# Altium footprint library ATTINY85-20SU.PcbLib: 1 footprints
Each footprint in its own frame and in the unit in brackets; x right, y up, seen from the top. Pads: shape width x height; smd on the part's side, far side on the other; paste and mask are expansions set on the pad; w line width, h text height; cw(c..) or ccw(c..) is an arc to the next point about the centre after c.
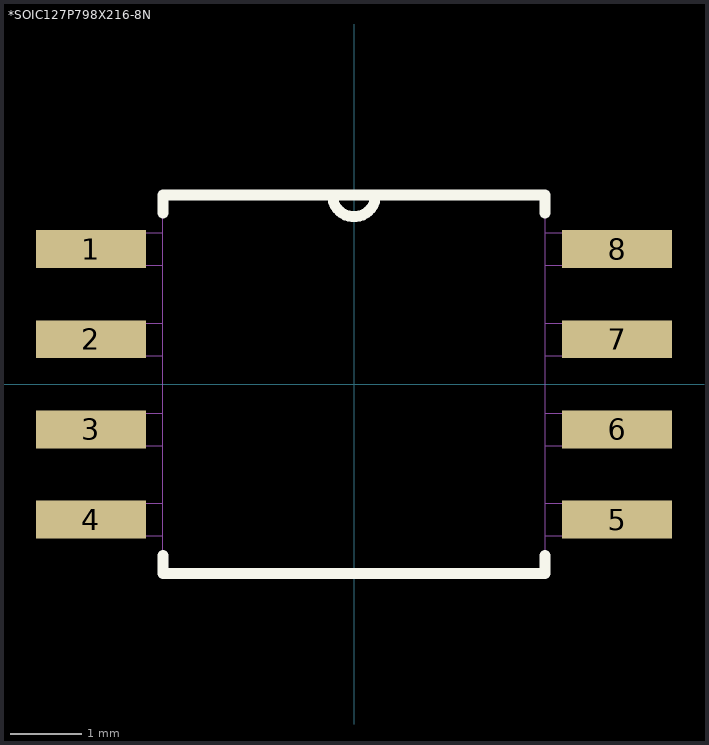
[diagram p0: the footprint, top view; thin cyan lines are the x and y axes]

## *SOIC127P798X216-8N [mil]
pads (8):
  rect 61x21 smd: 1(-146,75) 2(-146,25) 3(-146,-25) 4(-146,-75) 5(146,-75) 6(146,-25) 7(146,25) 8(146,75)
Top Overlay:
  lines w6: -106,-95 -106,-105 106,-105 106,-95 ; -106,95 -106,105 -12,105 ; 106,95 106,105 12,105 ; -12,105 ccw(c0,105) 12,105 ; -12,105 ccw(c0,105) 12,105 ; -12,105 12,105
Mechanical 4:
  lines w0: -163,-84 -106,-84 ; -163,-84 -163,-66 ; -163,-84 -106,-84 ; -163,-84 -163,-66 ; -163,-66 -106,-66 ; -163,-66 -106,-66 ; -163,-34 -106,-34 ; -163,-34 -163,-16 ; -163,-34 -106,-34 ; -163,-34 -163,-16 ; -163,-16 -106,-16 ; -163,-16 -106,-16 ; -163,16 -106,16 ; -163,16 -163,34 ; -163,16 -106,16 ; -163,16 -163,34 ; -163,34 -106,34 ; -163,34 -106,34 ; -163,66 -106,66 ; -163,66 -163,84 ; -163,66 -106,66 ; -163,66 -163,84 ; -163,84 -106,84 ; -163,84 -106,84 ; -106,-105 -106,105 ; -106,-105 106,-105 ; -106,-105 -106,105 ; -106,-105 106,-105 ; -106,-84 -106,-66 ; -106,-84 -106,-66 ; -106,-34 -106,-16 ; -106,-34 -106,-16 ; -106,16 -106,34 ; -106,16 -106,34 ; -106,66 -106,84 ; -106,66 -106,84 ; -106,105 -12,105 ; -106,105 -12,105 ; -12,105 ccw(c0,105) 12,105 ; -12,105 ccw(c0,105) 12,105 ; -12,105 ccw(c0,105) 12,105 ; -12,105 ccw(c0,105) 12,105 ; -12,105 12,105 ; -12,105 12,105 ; 12,105 106,105 ; 12,105 106,105 ; 106,-105 106,105 ; 106,-105 106,105 ; 106,-84 163,-84 ; 106,-84 106,-66 ; 106,-84 163,-84 ; 106,-84 106,-66 ; 106,-66 163,-66 ; 106,-66 163,-66 ; 106,-34 163,-34 ; 106,-34 106,-16 ; 106,-34 163,-34 ; 106,-34 106,-16 ; 106,-16 163,-16 ; 106,-16 163,-16 ; 106,16 163,16 ; 106,16 106,34 ; 106,16 163,16 ; 106,16 106,34 ; 106,34 163,34 ; 106,34 163,34 ; 106,66 163,66 ; 106,66 106,84 ; 106,66 163,66 ; 106,66 106,84 ; 106,84 163,84 ; 106,84 163,84 ; 163,-84 163,-66 ; 163,-84 163,-66 ; 163,-34 163,-16 ; 163,-34 163,-16 ; 163,16 163,34 ; 163,16 163,34 ; 163,66 163,84 ; 163,66 163,84